# Altium schematic symbol library USB.SchLib: 1 symbol
Pins are listed as number, name and electrical type; pins without a type are passive.

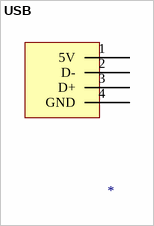
[diagram p0: symbol USB]

## USB
designator ?
footprint USB_Port_PCB (USB_A_MALE)
pins: 1 5V, 2 D-, 3 D+, 4 GND